# Altium schematic symbol library IC.SCHLIB: 146 symbols (part 2 of 2)
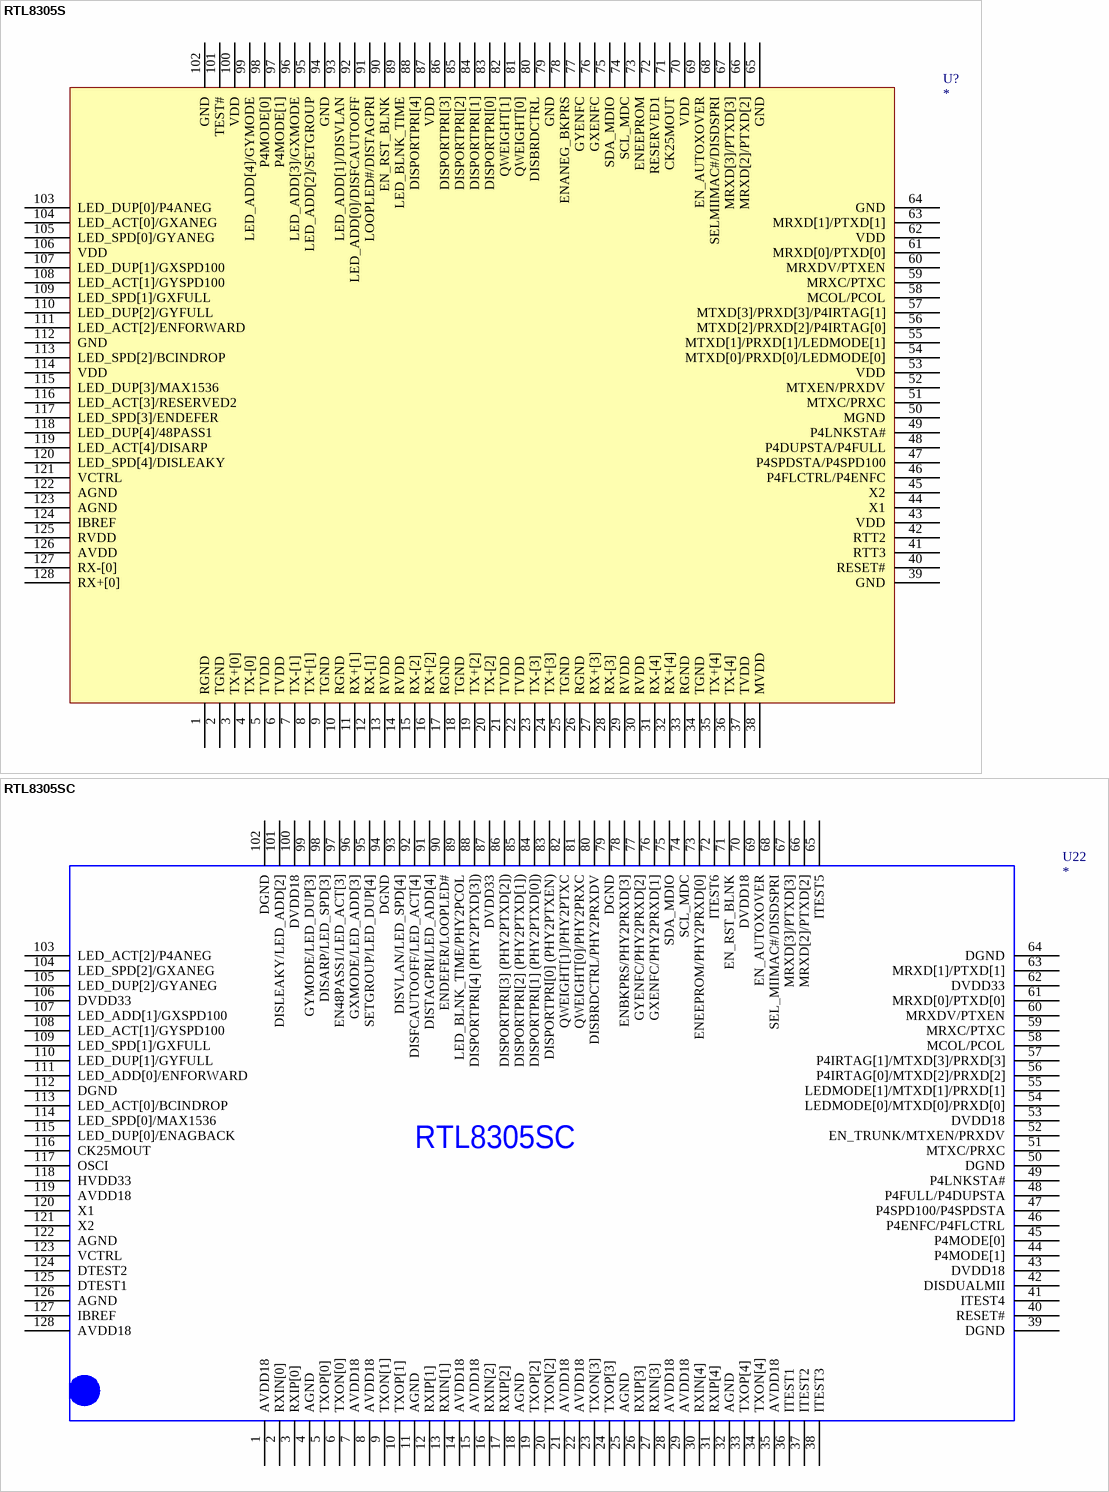
[diagram p16: symbols RTL8305S to RTL8305SC]

## RTL8305SC
designator U22
Right: *; Bottom: *
footprint REALTEK-RTL8305SB
pins: 1 AVDD18, 2 RXIN[0], 3 RXIP[0], 4 AGND, 5 TXOP[0], 6 TXON[0], 7 AVDD18, 8 AVDD18, 9 TXON[1], 10 TXOP[1], 11 AGND, 12 RXIP[1], 13 RXIN[1], 14 AVDD18, 15 AVDD18, 16 RXIN[2], 17 RXIP[2], 18 AGND, 19 TXOP[2], 20 TXON[2], 21 AVDD18, 22 AVDD18, 23 TXON[3], 24 TXOP[3], 25 AGND, 26 RXIP[3], 27 RXIN[3], 28 AVDD18, 29 AVDD18, 30 RXIN[4], 31 RXIP[4], 32 AGND, 33 TXOP[4], 34 TXON[4], 35 AVDD18, 36 ITEST1, 37 ITEST2, 38 ITEST3, 39 DGND, 40 RESET#, 41 ITEST4, 42 DISDUALMII, 43 DVDD18, 44 P4MODE[1], 45 P4MODE[0], 46 P4ENFC/P4FLCTRL, 47 P4SPD100/P4SPDSTA, 48 P4FULL/P4DUPSTA, 49 P4LNKSTA#, 50 DGND, 51 MTXC/PRXC, 52 EN_TRUNK/MTXEN/PRXDV, 53 DVDD18, 54 LEDMODE[0]/MTXD[0]/PRXD[0], 55 LEDMODE[1]/MTXD[1]/PRXD[1], 56 P4IRTAG[0]/MTXD[2]/PRXD[2], 57 P4IRTAG[1]/MTXD[3]/PRXD[3], 58 MCOL/PCOL, 59 MRXC/PTXC, 60 MRXDV/PTXEN, 61 MRXD[0]/PTXD[0], 62 DVDD33, 63 MRXD[1]/PTXD[1], 64 DGND, 65 ITEST5, 66 MRXD[2]/PTXD[2], 67 MRXD[3]/PTXD[3], 68 SEL_MIIMAC#/DISDSPRI, 69 EN_AUTOXOVER, 70 DVDD18, 71 EN_RST_BLNK, 72 ITEST6, 73 ENEEPROM/PHY2PRXD[0], 74 SCL_MDC, 75 SDA_MDIO, 76 GXENFC/PHY2PRXD[1], 77 GYENFC/PHY2PRXD[2], 78 ENBKPRS/PHY2PRXD[3], 79 DGND, 80 DISBRDCTRL/PHY2PRXDV, 81 QWEIGHT[0]/PHY2PRXC, 82 QWEIGHT[1]/PHY2PTXC, 83 DISPORTPRI[0] (PHY2PTXEN), 84 DISPORTPRI[1] (PHY2PTXD[0]), 85 DISPORTPRI[2] (PHY2PTXD[1]), 86 DISPORTPRI[3] (PHY2PTXD[2]), 87 DVDD33, 88 DISPORTPRI[4] (PHY2PTXD[3]), 89 LED_BLNK_TIME/PHY2PCOL, 90 ENDEFER/LOOPLED#, 91 DISTAGPRI/LED_ADD[4], 92 DISFCAUTOOFF/LED_ACT[4], 93 DISVLAN/LED_SPD[4], 94 DGND, 95 SETGROUP/LED_DUP[4], 96 GXMODE/LED_ADD[3], 97 EN48PASS1/LED_ACT[3], 98 DISARP/LED_SPD[3], 99 GYMODE/LED_DUP[3], 100 DVDD18, 101 DISLEAKY/LED_ADD[2], 102 DGND, 103 LED_ACT[2]/P4ANEG, 104 LED_SPD[2]/GXANEG, 105 LED_DUP[2]/GYANEG, 106 DVDD33, 107 LED_ADD[1]/GXSPD100, 108 LED_ACT[1]/GYSPD100, 109 LED_SPD[1]/GXFULL, 110 LED_DUP[1]/GYFULL, 111 LED_ADD[0]/ENFORWARD, 112 DGND, 113 LED_ACT[0]/BCINDROP, 114 LED_SPD[0]/MAX1536, 115 LED_DUP[0]/ENAGBACK, 116 CK25MOUT, 117 OSCI, 118 HVDD33, 119 AVDD18, 120 X1, 121 X2, 122 AGND, 123 VCTRL, 124 DTEST2, 125 DTEST1, 126 AGND, 127 IBREF, 128 AVDD18
2 alternate drawings of the same symbol

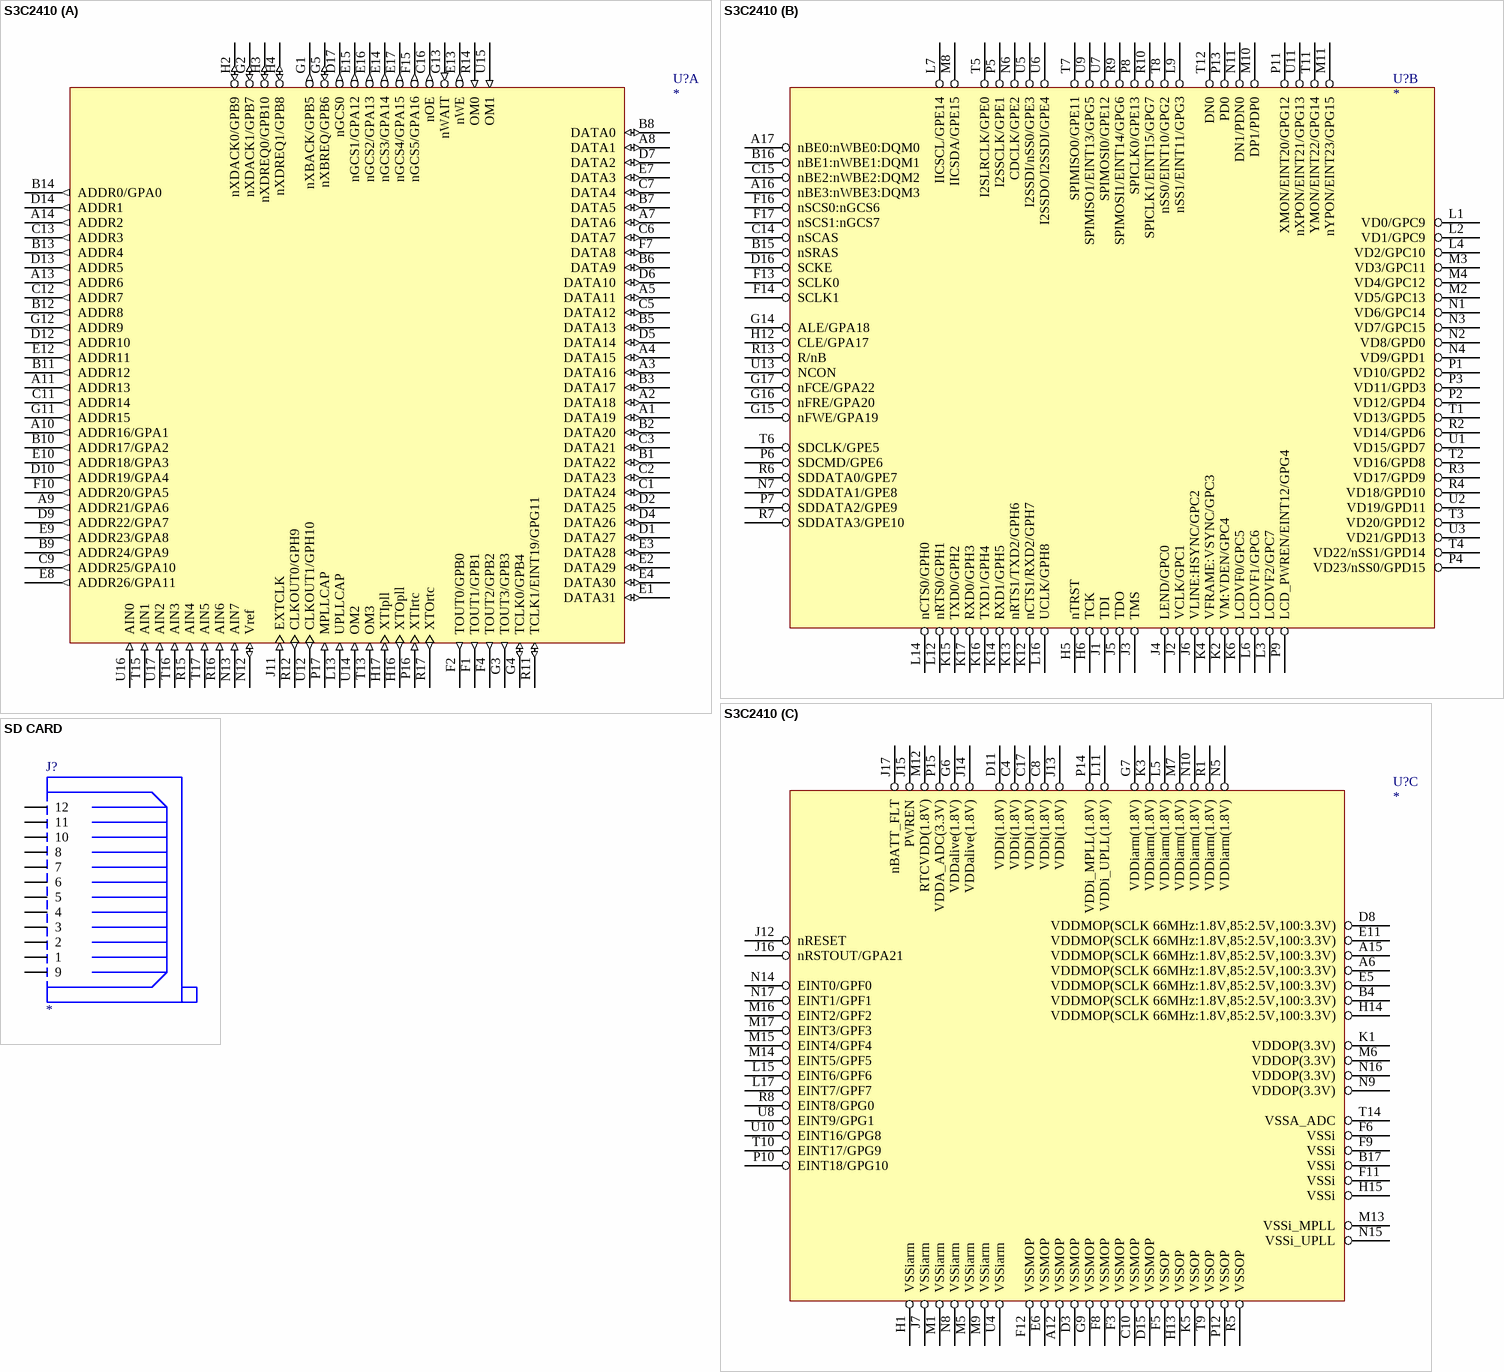
[diagram p12: symbols S3C2410 to SD CARD]

## S3C2410
designator U?
footprint BGA272X17
footprint FBGA272
part A pins: A1 DATA19 (io), A2 DATA18 (io), A3 DATA16 (io), A4 DATA15 (io), A5 DATA11 (io), A7 DATA6 (io), A8 DATA1 (io), A9 ADDR21/GPA6 (out), A10 ADDR16/GPA1 (out), A11 ADDR13 (out), A13 ADDR6 (out), A14 ADDR2 (out), B1 DATA22 (io), B2 DATA20 (io), B3 DATA17 (io), B5 DATA13 (io), B6 DATA9 (io), B7 DATA5 (io), B8 DATA0 (io), B9 ADDR24/GPA9 (out), B10 ADDR17/GPA2 (out), B11 ADDR12 (out), B12 ADDR8 (out), B13 ADDR4 (out), B14 ADDR0/GPA0 (out), C1 DATA24 (io), C2 DATA23 (io), C3 DATA21 (io), C5 DATA12 (io), C6 DATA7 (io), C7 DATA4 (io), C9 ADDR25/GPA10 (out), C11 ADDR14 (out), C12 ADDR7 (out), C13 ADDR3 (out), C16 nOE (out), D1 DATA27 (io), D2 DATA25 (io), D4 DATA26 (io), D5 DATA14 (io), D6 DATA10 (io), D7 DATA2 (io), D9 ADDR22/GPA7 (out), D10 ADDR19/GPA4 (out), D12 ADDR10 (out), D13 ADDR5 (out), D14 ADDR1 (out), D17 nGCS0 (out), E1 DATA31 (io), E2 DATA29 (io), E3 DATA28 (io), E4 DATA30 (io), E7 DATA3 (io), E8 ADDR26/GPA11 (out), E9 ADDR23/GPA8 (out), E10 ADDR18/GPA3 (out), E12 ADDR11 (out), E13 nWE (out), E14 nGCS3/GPA14 (out), E15 nGCS1/GPA12 (out), E16 nGCS2/GPA13 (out), E17 nGCS4/GPA15 (out), F1 TOUT1/GPB1 (out), F2 TOUT0/GPB0 (out), F4 TOUT2/GPB2 (out), F7 DATA8 (io), F10 ADDR20/GPA5 (out), F15 nGCS5/GPA16 (out), G1 nXBACK/GPB5 (out), G2 nXDACK1/GPB7 (io), G3 TOUT3/GPB3 (out), G4 TCLK0/GPB4 (io), G5 nXBREQ/GPB6 (io), G11 ADDR15 (out), G12 ADDR9 (out), G13 nWAIT (in), H2 nXDACK0/GPB9 (io), H3 nXDREQ0/GPB10 (io), H4 nXDREQ1/GPB8 (io), H16 XTOpll (out), H17 XTIpll (in), J11 EXTCLK (in), L13 UPLLCAP (in), N12 Vref (io), N13 AIN7 (in), P16 XTIrtc (in), P17 MPLLCAP (in), R11 TCLK1/EINT19/GPG11 (io), R12 CLKOUT0/GPH9 (out), R14 OM0 (in), R15 AIN4 (in), R16 AIN6 (in), R17 XTOrtc (out), T13 OM3 (in), T15 AIN1 (in), T16 AIN3 (in), T17 AIN5 (in), U12 CLKOUT1/GPH10 (out), U14 OM2 (in), U15 OM1 (in), U16 AIN0 (in), U17 AIN2 (in)
part B pins: A16 nBE3:nWBE3:DQM3, A17 nBE0:nWBE0:DQM0, B15 nSRAS, B16 nBE1:nWBE1:DQM1, C14 nSCAS, C15 nBE2:nWBE2:DQM2, D16 SCKE, F13 SCLK0, F14 SCLK1, F16 nSCS0:nGCS6, F17 nSCS1:nGCS7, G14 ALE/GPA18, G15 nFWE/GPA19, G16 nFRE/GPA20, G17 nFCE/GPA22, H5 nTRST, H6 TCK, H12 CLE/GPA17, J1 TDI, J2 VCLK/GPC1, J3 TMS, J4 LEND/GPC0, J5 TDO, J6 VLINE:HSYNC/GPC2, K2 VM:VDEN/GPC4, K4 VFRAME:VSYNC/GPC3, K6 LCDVF0/GPC5, K12 nCTS1/RXD2/GPH7, K13 nRTS1/TXD2/GPH6, K14 RXD1/GPH5, K15 TXD0/GPH2, K16 TXD1/GPH4, K17 RXD0/GPH3, L1 VD0/GPC9, L2 VD1/GPC9, L3 LCDVF2/GPC7, L4 VD2/GPC10, L6 LCDVF1/GPC6, L7 IICSCL/GPE14, L9 nSS1/EINT11/GPG3, L12 nRTS0/GPH1, L14 nCTS0/GPH0, L16 UCLK/GPH8, M2 VD5/GPC13, M3 VD3/GPC11, M4 VD4/GPC12, M8 IICSDA/GPE15, M10 DP1/PDP0, M11 nYPON/EINT23/GPG15, N1 VD6/GPC14, N2 VD8/GPD0, N3 VD7/GPC15, N4 VD9/GPD1, N6 CDCLK/GPE2, N7 SDDATA1/GPE8, N11 DN1/PDN0, P1 VD10/GPD2, P2 VD12/GPD4, P3 VD11/GPD3, P4 VD23/nSS0/GPD15, P5 I2SSCLK/GPE1, P6 SDCMD/GPE6, P7 SDDATA2/GPE9, P8 SPICLK0/GPE13, P9 LCD_PWREN/EINT12/GPG4, P11 XMON/EINT20/GPG12, P13 PD0, R2 VD14/GPD6, R3 VD17/GPD9, R4 VD18/GPD10, R6 SDDATA0/GPE7, R7 SDDATA3/GPE10, R9 SPIMOSI1/EINT14/GPG6, R10 SPICLK1/EINT15/GPG7, R13 R/nB, T1 VD13/GPD5, T2 VD16/GPD8, T3 VD20/GPD12, T4 VD22/nSS1/GPD14, T5 I2SLRCLK/GPE0, T6 SDCLK/GPE5, T7 SPIMISO0/GPE11, T8 nSS0/EINT10/GPG2, T11 YMON/EINT22/GPG14, T12 DN0, U1 VD15/GPD7, U2 VD19/GPD11, U3 VD21/GPD13, U5 I2SSDI/nSS0/GPE3, U6 I2SSDO/I2SSDI/GPE4, U7 SPIMOSI0/GPE12, U9 SPIMISO1/EINT13/GPG5, U11 nXPON/EINT21/GPG13, U13 NCON
part C pins: A6 VDDMOP(SCLK 66MHz:1.8V,85:2.5V,100:3.3V), A12 VSSMOP, A15 VDDMOP(SCLK 66MHz:1.8V,85:2.5V,100:3.3V), B4 VDDMOP(SCLK 66MHz:1.8V,85:2.5V,100:3.3V), B17 VSSi, C4 VDDi(1.8V), C8 VDDi(1.8V), C10 VSSMOP, C17 VDDi(1.8V), D3 VSSMOP, D8 VDDMOP(SCLK 66MHz:1.8V,85:2.5V,100:3.3V), D11 VDDi(1.8V), D15 VSSMOP, E5 VDDMOP(SCLK 66MHz:1.8V,85:2.5V,100:3.3V), E6 VSSMOP, E11 VDDMOP(SCLK 66MHz:1.8V,85:2.5V,100:3.3V), F3 VSSMOP, F5 VSSOP, F6 VSSi, F8 VSSMOP, F9 VSSi, F11 VSSi, F12 VSSMOP, G6 VDDalive(1.8V), G7 VDDiarm(1.8V), G9 VSSMOP, H1 VSSiarm, H13 VSSOP, H14 VDDMOP(SCLK 66MHz:1.8V,85:2.5V,100:3.3V), H15 VSSi, J7 VSSiarm, J12 nRESET, J13 VDDi(1.8V), J14 VDDalive(1.8V), J15 PWREN, J16 nRSTOUT/GPA21, J17 nBATT_FLT, K1 VDDOP(3.3V), K3 VDDiarm(1.8V), K5 VSSOP, L5 VDDiarm(1.8V), L11 VDDi_UPLL(1.8V), L15 EINT6/GPF6, L17 EINT7/GPF7, M1 VSSiarm, M5 VSSiarm, M6 VDDOP(3.3V), M7 VDDiarm(1.8V), M9 VSSiarm, M12 RTCVDD(1.8V), M13 VSSi_MPLL, M14 EINT5/GPF5, M15 EINT4/GPF4, M16 EINT2/GPF2, M17 EINT3/GPF3, N5 VDDiarm(1.8V), N8 VSSiarm, N9 VDDOP(3.3V), N10 VDDiarm(1.8V), N14 EINT0/GPF0, N15 VSSi_UPLL, N16 VDDOP(3.3V), N17 EINT1/GPF1, P10 EINT18/GPG10, P12 VSSOP, P14 VDDi_MPLL(1.8V), P15 VDDA_ADC(3.3V), R1 VDDiarm(1.8V), R5 VSSOP, R8 EINT8/GPG0, T9 VSSOP, T10 EINT17/GPG9, T14 VSSA_ADC, U4 VSSiarm, U8 EINT9/GPG1, U10 EINT16/GPG8

## SD CARD
designator J?
footprint SD_CARD
pins: 1, 2, 3, 4, 5, 6, 7, 8, 9, 10, 11, 12

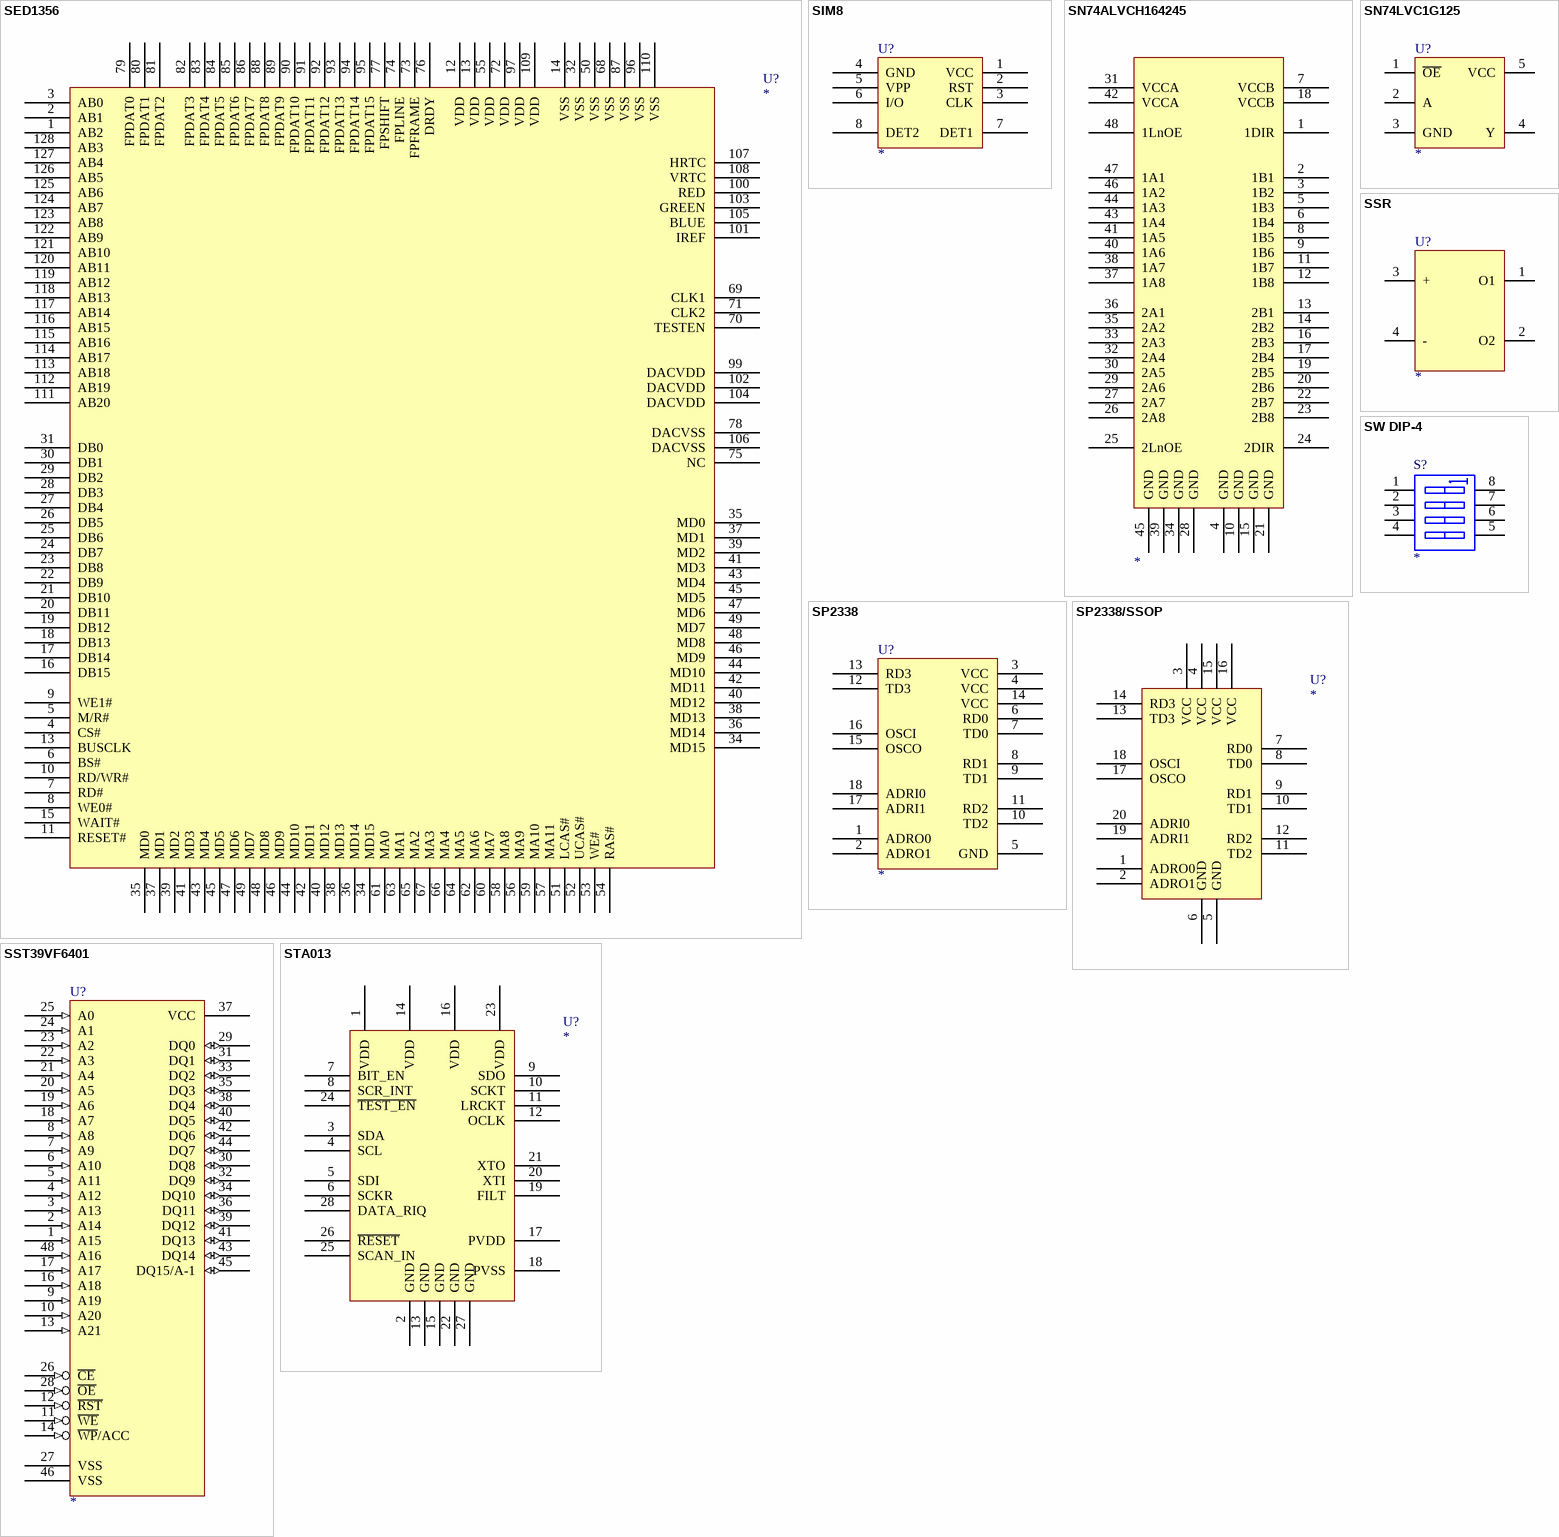
[diagram p13: symbols SED1356 to SW DIP-4]

## SED1356
designator U?
footprint QFP128
pins: 1 AB2, 2 AB1, 3 AB0, 4 CS#, 5 M/R#, 6 BS#, 7 RD#, 8 WE0#, 9 WE1#, 10 RD/WR#, 11 RESET#, 12 VDD, 13 VDD, 13 BUSCLK, 14 VSS, 15 WAIT#, 16 DB15, 17 DB14, 18 DB13, 19 DB12, 20 DB11, 21 DB10, 22 DB9, 23 DB8, 24 DB7, 25 DB6, 26 DB5, 27 DB4, 28 DB3, 29 DB2, 30 DB1, 31 DB0, 32 VSS, 34 MD15, 34 MD15, 35 MD0, 35 MD0, 36 MD14, 36 MD14, 37 MD1, 37 MD1, 38 MD13, 38 MD13, 39 MD2, 39 MD2, 40 MD12, 40 MD12, 41 MD3, 41 MD3, 42 MD11, 42 MD11, 43 MD4, 43 MD4, 44 MD10, 44 MD10, 45 MD5, 45 MD5, 46 MD9, 46 MD9, 47 MD6, 47 MD6, 48 MD8, 48 MD8, 49 MD7, 49 MD7, 50 VSS, 51 LCAS#, 52 UCAS#, 53 WE#, 54 RAS#, 55 VDD, 56 MA9, 57 MA11, 58 MA8, 59 MA10, 60 MA7, 61 MA0, 62 MA6, 63 MA1, 64 MA5, 65 MA2, 66 MA4, 67 MA3, 68 VSS, 69 CLK1, 70 TESTEN, 71 CLK2, 72 VDD, 73 FPFRAME, 74 FPLINE, 75 NC, 76 DRDY, 77 FPSHIFT, 78 DACVSS, 79 FPDAT0, 80 FPDAT1, 81 FPDAT2, 82 FPDAT3, 83 FPDAT4, 84 FPDAT5, 85 FPDAT6, 86 FPDAT7, 87 VSS, 88 FPDAT8, 89 FPDAT9, 90 FPDAT10, 91 FPDAT11, 92 FPDAT12, 93 FPDAT13, 94 FPDAT14, 95 FPDAT15, 96 VSS, 97 VDD, 99 DACVDD, 100 RED, 101 IREF, 102 DACVDD, 103 GREEN, 104 DACVDD, 105 BLUE, 106 DACVSS, 107 HRTC, 108 VRTC, 109 VDD, 110 VSS, 111 AB20, 112 AB19, 113 AB18, 114 AB17, 115 AB16, 116 AB15, 117 AB14, 118 AB13, 119 AB12, 120 AB11, 121 AB10, 122 AB9, 123 AB8, 124 AB7, 125 AB6, 126 AB5, 127 AB4, 128 AB3

## SIM8
designator U?
Text Field1: 70; Text Field2: 50
footprint IC-CARD
pins: 1 VCC, 2 RST, 3 CLK, 4 GND, 5 VPP, 6 I/O, 7 DET1, 8 DET2

## SN74ALVCH164245
designator ?
pins: 1 1DIR, 2 1B1, 3 1B2, 4 GND, 5 1B3, 6 1B4, 7 VCCB, 8 1B5, 9 1B6, 10 GND, 11 1B7, 12 1B8, 13 2B1, 14 2B2, 15 GND, 16 2B3, 17 2B4, 18 VCCB, 19 2B5, 20 2B6, 21 GND, 22 2B7, 23 2B8, 24 2DIR, 25 2LnOE, 26 2A8, 27 2A7, 28 GND, 29 2A6, 30 2A5, 31 VCCA, 32 2A4, 33 2A3, 34 GND, 35 2A2, 36 2A1, 37 1A8, 38 1A7, 39 GND, 40 1A6, 41 1A5, 42 VCCA, 43 1A4, 44 1A3, 45 GND, 46 1A2, 47 1A1, 48 1LnOE

## SN74LVC1G125
designator U?
Single Bus Buffer Gate With 3-State Outputs
footprint SOT-23
pins: 1 ~{OE}, 2 A, 3 GND, 4 Y, 5 VCC

## SP2338
designator U?
footprint S018W
pins: 1 ADRO0, 2 ADRO1, 3 VCC, 4 VCC, 5 GND, 6 RD0, 7 TD0, 8 RD1, 9 TD1, 10 TD2, 11 RD2, 12 TD3, 13 RD3, 14 VCC, 15 OSCO, 16 OSCI, 17 ADRI1, 18 ADRI0

## SP2338/SSOP
designator U?
SOJ20/300
footprint SOJ20/300
pins: 1 ADRO0, 2 ADRO1, 3 VCC, 4 VCC, 5 GND, 6 GND, 7 RD0, 8 TD0, 9 RD1, 10 TD1, 11 TD2, 12 RD2, 13 TD3, 14 RD3, 15 VCC, 16 VCC, 17 OSCO, 18 OSCI, 19 ADRI1, 20 ADRI0

## SSR
designator U?
SOLID STATE RELAY
footprint AQ-G
footprint G3MB
pins: 1 O1, 2 O2, 3 +, 4 -

## SST39VF6401
designator U?
Text Field1: 90; Text Field2: 330
footprint TSOP48
pins: 1 A15 (in), 2 A14 (in), 3 A13 (in), 4 A12 (in), 5 A11 (in), 6 A10 (in), 7 A9 (in), 8 A8 (in), 9 A19 (in), 10 A20 (in), 11 ~{WE} (in), 12 ~{RST} (in), 13 A21 (in), 14 ~{WP}/ACC (in), 16 A18 (in), 17 A17 (in), 18 A7 (in), 19 A6 (in), 20 A5 (in), 21 A4 (in), 22 A3 (in), 23 A2 (in), 24 A1 (in), 25 A0 (in), 26 ~{CE} (in), 27 VSS (power), 28 ~{OE} (in), 29 DQ0 (io), 30 DQ8 (io), 31 DQ1 (io), 32 DQ9 (io), 33 DQ2 (io), 34 DQ10 (io), 35 DQ3 (io), 36 DQ11 (io), 37 VCC (power), 38 DQ4 (io), 39 DQ12 (io), 40 DQ5 (io), 41 DQ13 (io), 42 DQ6 (io), 43 DQ14 (io), 44 DQ7 (io), 45 DQ15/A-1 (io), 46 VSS (power), 48 A16 (in)

## STA013
designator U?
footprint SO-28
pins: 1 VDD, 2 GND, 3 SDA, 4 SCL, 5 SDI, 6 SCKR, 7 BIT_EN, 8 SCR_INT, 9 SDO, 10 SCKT, 11 LRCKT, 12 OCLK, 13 GND, 14 VDD, 15 GND, 16 VDD, 17 PVDD, 18 PVSS, 19 FILT, 20 XTI, 21 XTO, 22 GND, 23 VDD, 24 ~{TEST_EN}, 25 SCAN_IN, 26 ~{RESET}, 27 GND, 28 DATA_RIQ

## SW DIP-4
designator S?
DIP Switch
pins: 1 A1, 2 A2, 3 A3, 4 A4, 5 B4, 6 B3, 7 B2, 8 B1

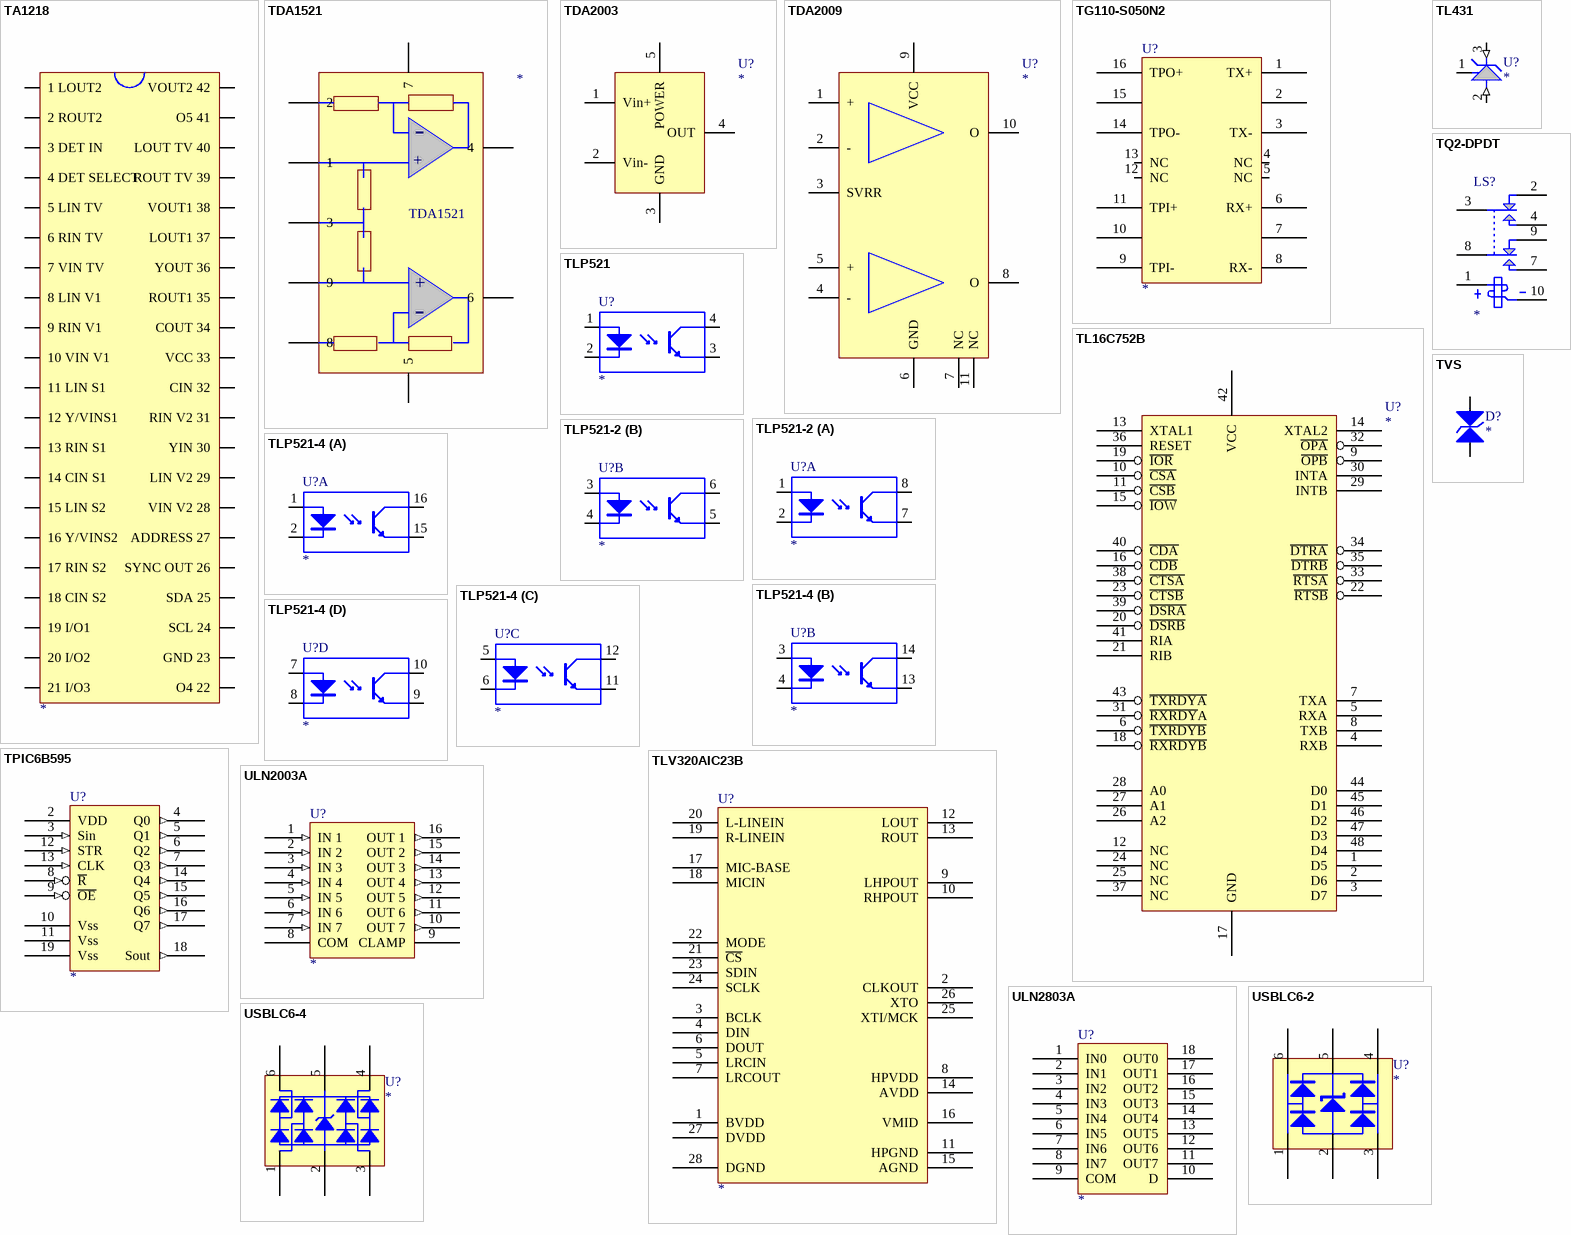
[diagram p14: symbols TA1218 to USBLC6-4]

## TA1218
designator ?
pins: 1 1 LOUT2, 2 2 ROUT2, 3 3 DET IN, 4 4 DET SELECT, 5 5 LIN TV, 6 6 RIN TV, 7 7 VIN TV, 8 8 LIN V1, 9 9 RIN V1, 10 10 VIN V1, 11 11 LIN S1, 12 12 Y/VINS1, 13 13 RIN S1, 14 14 CIN S1, 15 15 LIN S2, 16 16 Y/VINS2, 17 17 RIN S2, 18 18 CIN S2, 19 19 I/O1, 20 20 I/O2, 21 21 I/O3, 22 O4 22, 23 GND 23, 24 SCL 24, 25 SDA 25, 26 SYNC OUT 26, 27 ADDRESS 27, 28 VIN V2 28, 29 LIN V2 29, 30 YIN 30, 31 RIN V2 31, 32 CIN 32, 33 VCC 33, 34 COUT 34, 35 ROUT1 35, 36 YOUT 36, 37 LOUT1 37, 38 VOUT1 38, 39 ROUT TV 39, 40 LOUT TV 40, 41 O5 41, 42 VOUT2 42

## TDA1521
designator ?
pins: 1, 2, 3, 4, 5, 6, 7, 8, 9
text: -; +

## TDA2003
designator U?
AUDIO AMPLIFIER
pins: 1 Vin+, 2 Vin-, 3 GND, 4 OUT, 5 POWER

## TDA2009
designator U?
footprint ZIP11
pins: 1 +, 2 -, 3 SVRR, 4 -, 5 +, 6 GND, 7 NC, 8 O, 9 VCC, 10 O, 11 NC

## TG110-S050N2
designator U?
footprint DIP16
pins: 1 TX+, 2, 3 TX-, 4 NC, 5 NC, 6 RX+, 7, 8 RX-, 9 TPI-, 10, 11 TPI+, 12 NC, 13 NC, 14 TPO-, 15, 16 TPO+

## TL16C752B
designator U?
3.3-V DUAL UART WITH 64-BYTE FIFO
footprint PQFP48
pins: 1 D5, 2 D6, 3 D7, 4 RXB, 5 RXA, 6 ~{TXRDYB}, 7 TXA, 8 TXB, 9 ~{OPB}, 10 ~{CSA}, 11 ~{CSB}, 12 NC, 13 XTAL1, 14 XTAL2, 15 ~{IOW}, 16 ~{CDB}, 17 GND, 18 ~{RXRDYB}, 19 ~{IOR}, 20 ~{DSRB}, 21 RIB, 22 ~{RTSB}, 23 ~{CTSB}, 24 NC, 25 NC, 26 A2, 27 A1, 28 A0, 29 INTB, 30 INTA, 31 ~{RXRDY}A, 32 ~{OPA}, 33 ~{RTSA}, 34 ~{DTRA}, 35 ~{DTRB}, 36 RESET, 37 NC, 38 ~{CTSA}, 39 ~{DSRA}, 40 ~{CDA}, 41 RIA, 42 VCC, 43 ~{TXRDYA}, 44 D0, 45 D1, 46 D2, 47 D3, 48 D4

## TL431
designator U?
Text Field1: 22; Text Field2: 22
pins: 1 R, 2 A (in), 3 K (in)

## TLP521
designator U?
Text Field1: 80; Text Field2: 50
footprint DIP4
pins: 1 A, 2 K, 3 E, 4 C

## TLP521-2
designator U?
Text Field1: 80; Text Field2: 50
footprint DIP8
part A pins: 1 A, 2 K, 7 E, 8 C
part B pins: 3 A, 4 K, 5 E, 6 C

## TLP521-4
designator U?
Text Field1: 80; Text Field2: 50
footprint DIP16
part A pins: 1 A, 2 K, 15 E, 16 C
part B pins: 3 A, 4 K, 13 E, 14 C
part C pins: 5 A, 6 K, 11 E, 12 C
part D pins: 7 A, 8 K, 9 E, 10 C

## TLV320AIC23B
designator U?
Text Field1: 140; Text Field2: 250
pins: 1 BVDD, 2 CLKOUT, 3 BCLK, 4 DIN, 5 LRCIN, 6 DOUT, 7 LRCOUT, 8 HPVDD, 9 LHPOUT, 10 RHPOUT, 11 HPGND, 12 LOUT, 13 ROUT, 14 AVDD, 15 AGND, 16 VMID, 17 MIC-BASE, 18 MICIN, 19 R-LINEIN, 20 L-LINEIN, 21 ~{CS}, 22 MODE, 23 SDIN, 24 SCLK, 25 XTI/MCK, 26 XTO, 27 DVDD, 28 DGND

## TPIC6B595
designator U?
footprint DIP20
pins: 1 NC hidden to NC, 2 VDD (power), 3 Sin (in), 4 Q0 (out), 5 Q1 (out), 6 Q2 (out), 7 Q3 (out), 8 ~{R} (in), 9 ~{OE} (in), 10 Vss (power), 11 Vss (power), 12 STR (in), 13 CLK (in), 14 Q4 (out), 15 Q5 (out), 16 Q6 (out), 17 Q7 (out), 18 Sout (out), 19 Vss (power), 20 NC hidden to NC

## TQ2-DPDT
designator LS?
NAIS RELAY; Text Field1: 20; Text Field2: 90
footprint TQ2
pins: 1 COIL+, 2 NC1, 3 COMMON1, 4 NO1, 7 NO2, 8 COMMON2, 9 NC2, 10 -VE

## TVS
designator D?
footprint SMA
pins: 1, 2

## ULN2003A
designator U?
HIGH-VOLTAGE,HIGH-CURRENT DARLINGTON ARRAYS
pins: 1 IN 1 (in), 2 IN 2 (in), 3 IN 3 (in), 4 IN 4 (in), 5 IN 5 (in), 6 IN 6 (in), 7 IN 7 (in), 8 COM, 9 CLAMP, 10 OUT 7 (out), 11 OUT 6 (out), 12 OUT 5 (out), 13 OUT 4 (out), 14 OUT 3 (out), 15 OUT 2 (out), 16 OUT 1 (out)

## ULN2803A
designator U?
footprint SOJ-18
pins: 1 IN0, 2 IN1, 3 IN2, 4 IN3, 5 IN4, 6 IN5, 7 IN6, 8 IN7, 9 COM, 10 D, 11 OUT7, 12 OUT6, 13 OUT5, 14 OUT4, 15 OUT3, 16 OUT2, 17 OUT1, 18 OUT0

## USBLC6-2
designator U?
footprint SOT23-6
pins: 1, 2, 3, 4, 5, 6

## USBLC6-4
designator U?
footprint SOT23-6
pins: 1, 2, 3, 4, 5, 6

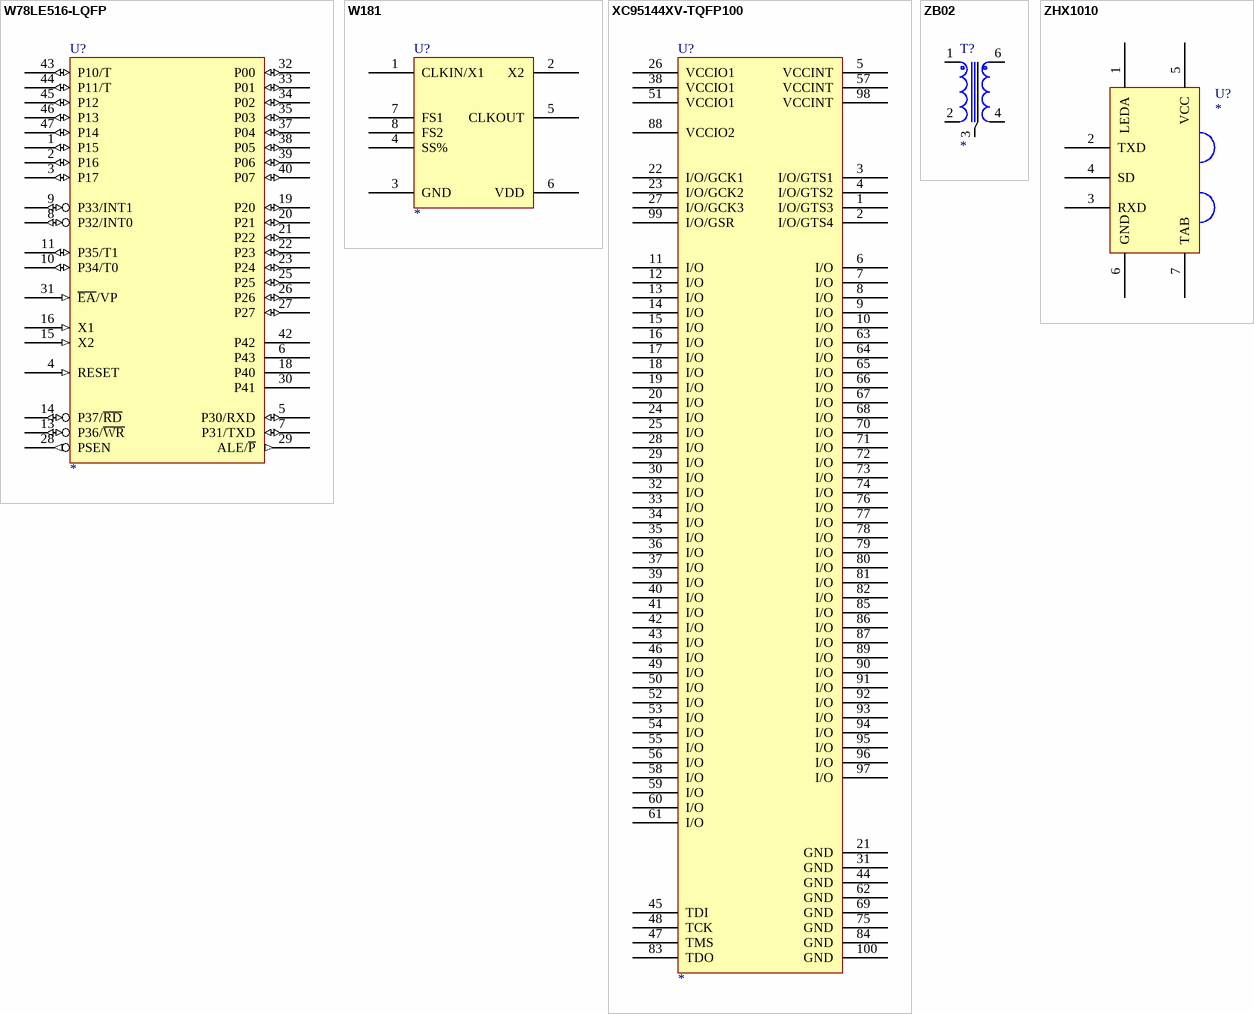
[diagram p15: symbols W78LE516-LQFP to ZHX1010]

## W78LE516-LQFP
designator U?
footprint LQFP48
pins: 1 P15 (io), 2 P16 (io), 3 P17 (io), 4 RESET (in), 5 P30/RXD (io), 6 P43, 7 P31/TXD (io), 8 P32/INT0 (io), 9 P33/INT1 (io), 10 P34/T0 (io), 11 P35/T1 (io), 13 P36/~{WR} (io), 14 P37/~{RD} (io), 15 X2 (in), 16 X1 (in), 17 GND (power) hidden to GND, 18 P40, 19 P20 (io), 20 P21 (io), 21 P22 (io), 22 P23 (io), 23 P24 (io), 25 P25 (io), 26 P26 (io), 27 P27 (io), 28 PSEN (out), 29 ALE/~{P} (out), 30 P41, 31 ~{EA}/VP (in), 32 P00 (io), 33 P01 (io), 34 P02 (io), 35 P03 (io), 37 P04 (io), 38 P05 (io), 39 P06 (io), 40 P07 (io), 41 VCC (power) hidden to VCC, 42 P42, 43 P10/T (io), 44 P11/T (io), 45 P12 (io), 46 P13 (io), 47 P14 (io)

## W181
designator U?
Peak Reducing EMI Solution
footprint SO8
pins: 1 CLKIN/X1, 2 X2, 3 GND, 4 SS%, 5 CLKOUT, 6 VDD, 7 FS1, 8 FS2

## XC95144XV-TQFP100
designator U?
XC95144XV-TQFP100
footprint TQFP100
pins: 1 I/O/GTS3, 2 I/O/GTS4, 3 I/O/GTS1, 4 I/O/GTS2, 5 VCCINT, 6 I/O, 7 I/O, 8 I/O, 9 I/O, 10 I/O, 11 I/O, 12 I/O, 13 I/O, 14 I/O, 15 I/O, 16 I/O, 17 I/O, 18 I/O, 19 I/O, 20 I/O, 21 GND, 22 I/O/GCK1, 23 I/O/GCK2, 24 I/O, 25 I/O, 26 VCCIO1, 27 I/O/GCK3, 28 I/O, 29 I/O, 30 I/O, 31 GND, 32 I/O, 33 I/O, 34 I/O, 35 I/O, 36 I/O, 37 I/O, 38 VCCIO1, 39 I/O, 40 I/O, 41 I/O, 42 I/O, 43 I/O, 44 GND, 45 TDI, 46 I/O, 47 TMS, 48 TCK, 49 I/O, 50 I/O, 51 VCCIO1, 52 I/O, 53 I/O, 54 I/O, 55 I/O, 56 I/O, 57 VCCINT, 58 I/O, 59 I/O, 60 I/O, 61 I/O, 62 GND, 63 I/O, 64 I/O, 65 I/O, 66 I/O, 67 I/O, 68 I/O, 69 GND, 70 I/O, 71 I/O, 72 I/O, 73 I/O, 74 I/O, 75 GND, 76 I/O, 77 I/O, 78 I/O, 79 I/O, 80 I/O, 81 I/O, 82 I/O, 83 TDO, 84 GND, 85 I/O, 86 I/O, 87 I/O, 88 VCCIO2, 89 I/O, 90 I/O, 91 I/O, 92 I/O, 93 I/O, 94 I/O, 95 I/O, 96 I/O, 97 I/O, 98 VCCINT, 99 I/O/GSR, 100 GND

## ZB02
designator T?
Text Field1: 20; Text Field2: 40
pins: 1 IN1, 2 IN2, 3, 4 OUT2, 6 OUT1

## ZHX1010
designator U?
Text Field1: 70; Text Field2: 110
pins: 1 LEDA, 2 TXD, 3 RXD, 4 SD, 5 VCC, 6 GND, 7 TAB